# Altium schematic symbol library MC68HC908JL3.SchLib: 1 symbol
Pins are listed as number, name and electrical type; pins without a type are passive.

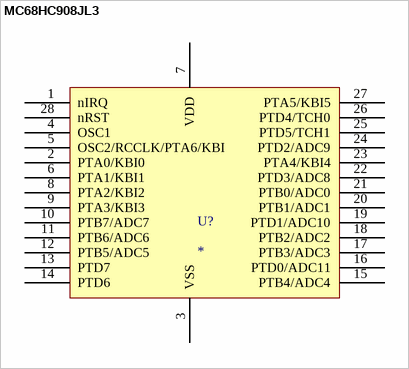
[diagram p0: symbol MC68HC908JL3]

## MC68HC908JL3
designator U?
HC08 Microcontroller IC 8-Bit 8MHz 4KB (4K x 8) FLASH 28-PDIP
footprint PDIP28
pins: 1 nIRQ, 2 PTA0/KBI0, 3 VSS, 4 OSC1, 5 OSC2/RCCLK/PTA6/KBI, 6 PTA1/KBI1, 7 VDD, 8 PTA2/KBI2, 9 PTA3/KBI3, 10 PTB7/ADC7, 11 PTB6/ADC6, 12 PTB5/ADC5, 13 PTD7, 14 PTD6, 15 PTB4/ADC4, 16 PTD0/ADC11, 17 PTB3/ADC3, 18 PTB2/ADC2, 19 PTD1/ADC10, 20 PTB1/ADC1, 21 PTB0/ADC0, 22 PTD3/ADC8, 23 PTA4/KBI4, 24 PTD2/ADC9, 25 PTD5/TCH1, 26 PTD4/TCH0, 27 PTA5/KBI5, 28 nRST